# EAGLE library part MC74HC4053 (library GEN_WIP_MASTERLIB)
3 Circuit IC Switch 2:1 100 Ohm
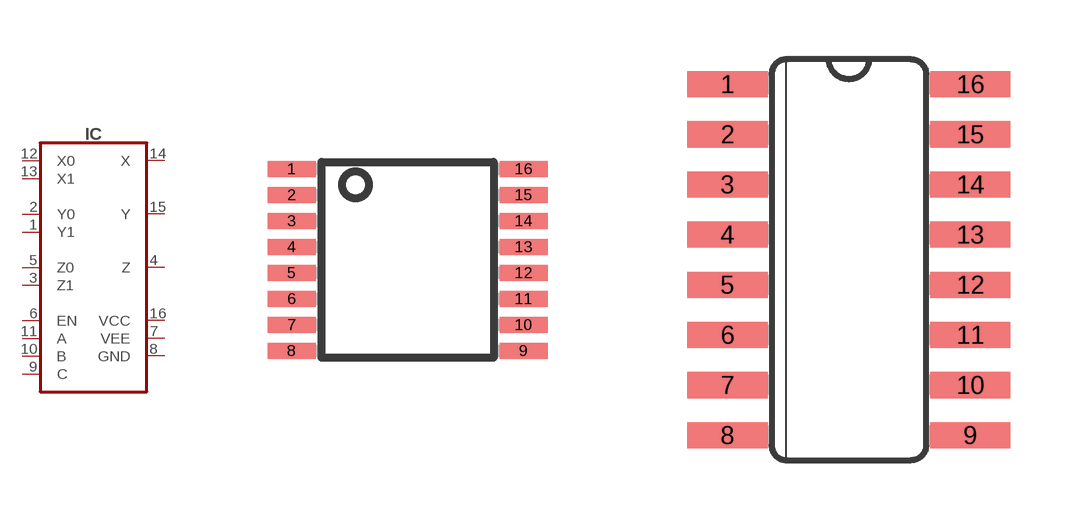
[diagram p5: symbol with the pads of TSSOP16; footprints TSSOP16, SO16]

Designator prefix IC

## MC74HC4053 (DIGIKEY#: MC74HC4053ADTR2GOSCT-ND; MANF: ON Semiconductor; MANF#: MC74HC4053ADTR2G)  [TSSOP16]
1  Y1
2  Y0
3  Z1
4  Z
5  Z0
6  EN  in
7  VEE
8  GND
9  C  in
10  B  in
11  A  in
12  X0
13  X1
14  X
15  Y
16  VCC

## MC74HC4053D  [SO16]
1  Y1
2  Y0
3  Z1
4  Z
5  Z0
6  EN  in
9  C  in
10  B  in
11  A  in
12  X0
13  X1
14  X
15  Y

## MC74HC4053N  [DIL16]
Pads as for SO16

## Footprint TSSOP16 (pad centres in mm)
PLASTIC SMALL-OUTLINE PACKAGE SO 16 JEDEC MO-153, PW Type Source: www.ti.com/.. slvs087l.pdf
smd 1.2 x 0.4: 1 -2.9,2.275; 2 -2.9,1.625; 3 -2.9,0.975; 4 -2.9,0.325; 5 -2.9,-0.325; 6 -2.9,-0.975; 7 -2.9,-1.625; 8 -2.9,-2.275; 9 2.9,-2.275; 10 2.9,-1.625; 11 2.9,-0.975; 12 2.9,-0.325; 13 2.9,0.325; 14 2.9,0.975; 15 2.9,1.625; 16 2.9,2.275

## Footprint SO16 (pad centres in mm)
Small Outline package 150 mil
smd 2.032 x 0.66: 1 -3.073,4.445; 2 -3.073,3.175; 3 -3.073,1.905; 4 -3.073,0.635; 5 -3.073,-0.635; 6 -3.073,-1.905; 7 -3.073,-3.175; 8 -3.073,-4.445; 9 3.073,-4.445; 10 3.073,-3.175; 11 3.073,-1.905; 12 3.073,-0.635; 13 3.073,0.635; 14 3.073,1.905; 15 3.073,3.175; 16 3.073,4.445

## Footprint DIL16 (pad centres in mm)
Dual In Line Package
drill 0.813 long: 1 -8.89,-3.81; 2 -6.35,-3.81; 3 -3.81,-3.81; 4 -1.27,-3.81; 5 1.27,-3.81; 6 3.81,-3.81; 7 6.35,-3.81; 8 8.89,-3.81; 9 8.89,3.81; 10 6.35,3.81; 11 3.81,3.81; 12 1.27,3.81; 13 -1.27,3.81; 14 -3.81,3.81; 15 -6.35,3.81; 16 -8.89,3.81